# Altium integrated library Spansion Memory Flash.IntLib: 812 symbols (part 8 of 21)
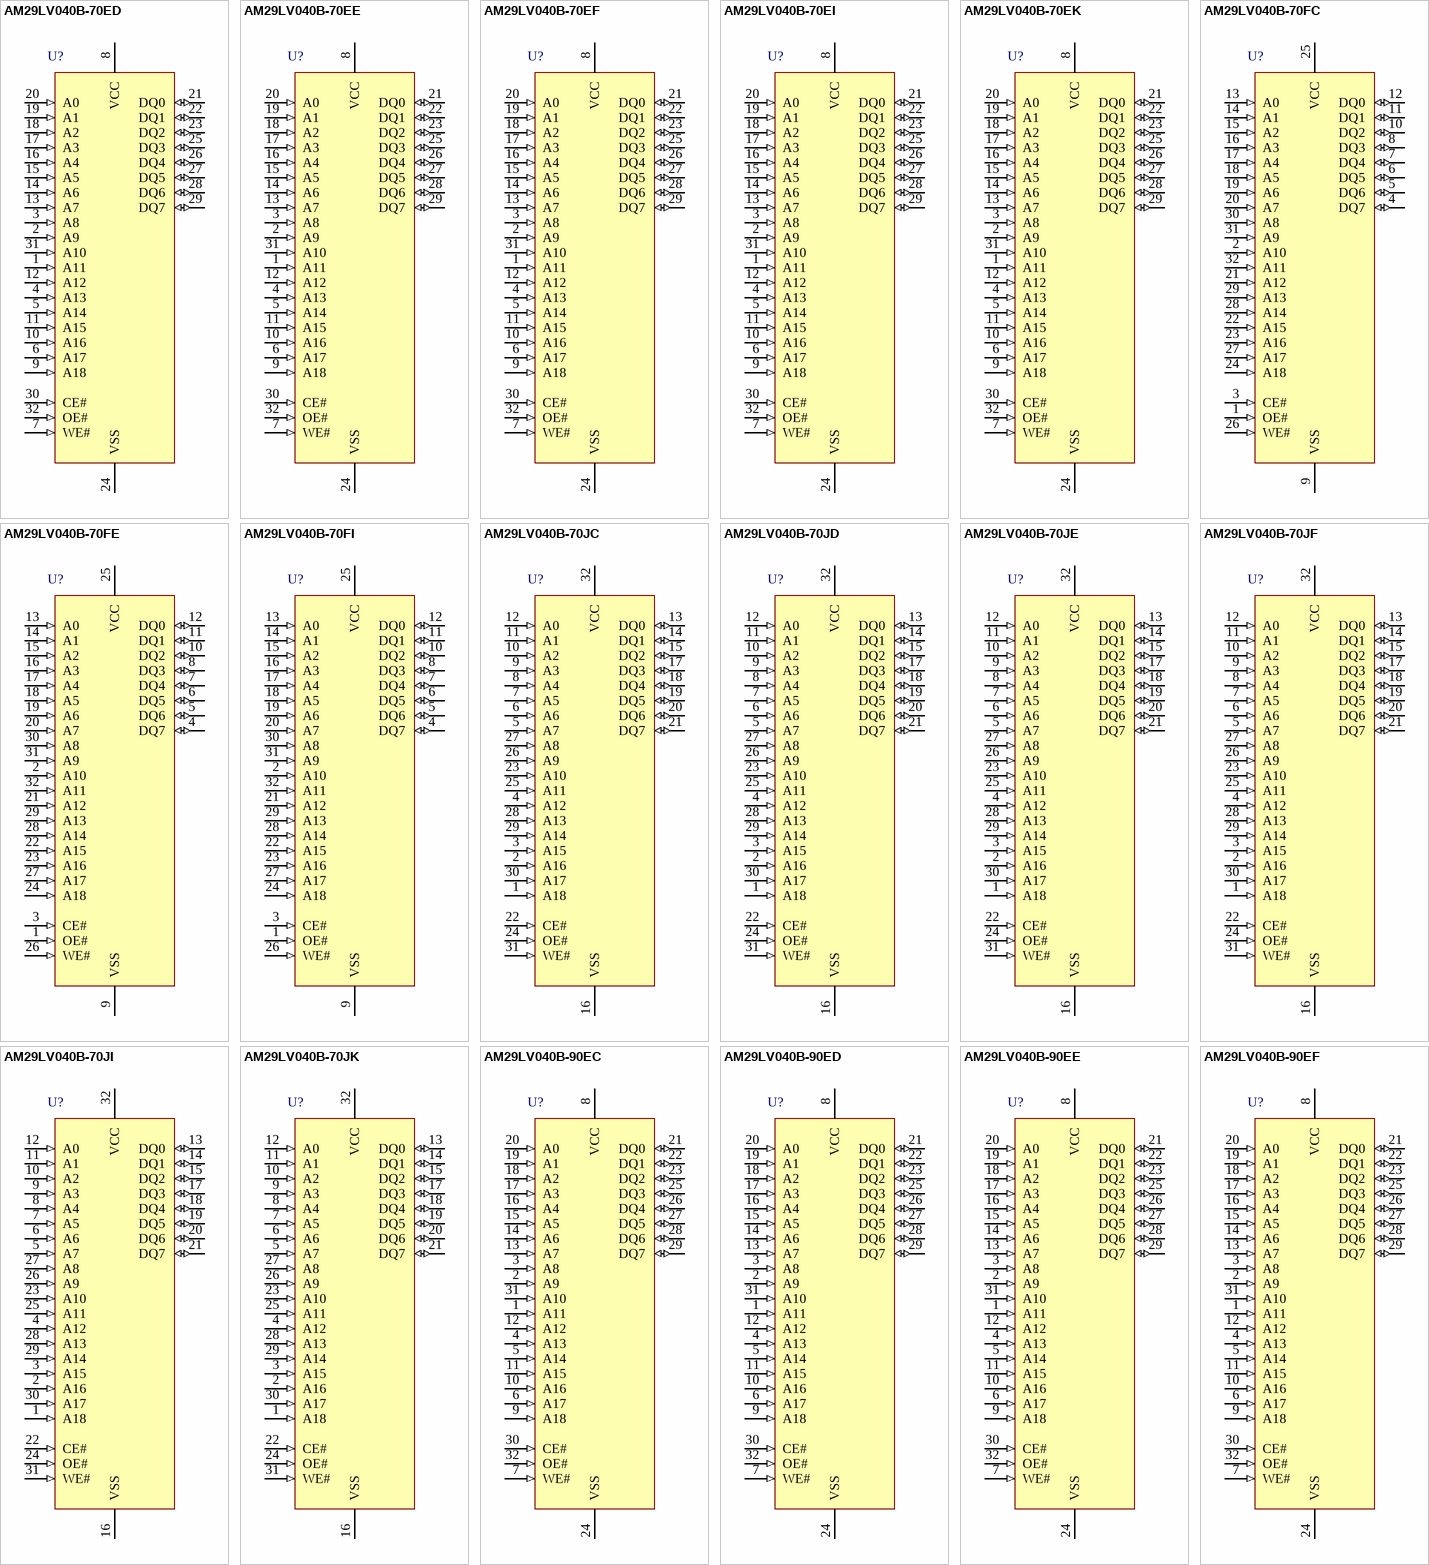
[diagram p73: symbols AM29LV040B-70ED to AM29LV040B-90EF]

## AM29LV040B-70JE
designator U?
4 Mb (512 K x 8) CMOS 3.0 Volt Uniform Sector Flash Memory, 32-Pin Rectangular PLCC, Extended Grade; Published: 6-Oct-2005; DatasheetVersion: Jul-2005; PackageVersion: revAH, 10/99; PackageReference: PL032; Publisher: Altium Limited; PackageDescription: Leaded Chip Carrier, Plastic; 32 Leads; Body 11.4 x 14 mm; Code_JEDEC: MS-016-AE; Code_IPC: PLCC/R-32; ComponentLink1Description: Manufacturer Link; ComponentLink1URL: http://www.spansion.com/; ComponentLink2Description: Datasheet; ComponentLink2URL: http://www.spansion.com/datasheets/21354e2.pdf
footprint PL032 (Leaded Chip Carrier, Plastic; 32 Leads; Body 11.4 x 14 mm)
pins: 1 A18 (in), 2 A16 (in), 3 A15 (in), 4 A12 (in), 5 A7 (in), 6 A6 (in), 7 A5 (in), 8 A4 (in), 9 A3 (in), 10 A2 (in), 11 A1 (in), 12 A0 (in), 13 DQ0 (io), 14 DQ1 (io), 15 DQ2 (io), 16 VSS (power), 17 DQ3 (io), 18 DQ4 (io), 19 DQ5 (io), 20 DQ6 (io), 21 DQ7 (io), 22 CE# (in), 23 A10 (in), 24 OE# (in), 25 A11 (in), 26 A9 (in), 27 A8 (in), 28 A13 (in), 29 A14 (in), 30 A17 (in), 31 WE# (in), 32 VCC (power)

## AM29LV040B-70JF
designator U?
4 Mb (512 K x 8) CMOS 3.0 Volt Uniform Sector Flash Memory, 32-Pin Rectangular PLCC, Industrial Grade, Pb-free; Published: 6-Oct-2005; DatasheetVersion: Jul-2005; PackageVersion: revAH, 10/99; PackageReference: PL032; Publisher: Altium Limited; PackageDescription: Leaded Chip Carrier, Plastic; 32 Leads; Body 11.4 x 14 mm; Code_JEDEC: MS-016-AE; Code_IPC: PLCC/R-32; ComponentLink1Description: Manufacturer Link; ComponentLink1URL: http://www.spansion.com/; ComponentLink2Description: Datasheet; ComponentLink2URL: http://www.spansion.com/datasheets/21354e2.pdf
footprint PL032 (Leaded Chip Carrier, Plastic; 32 Leads; Body 11.4 x 14 mm)
pins: 1 A18 (in), 2 A16 (in), 3 A15 (in), 4 A12 (in), 5 A7 (in), 6 A6 (in), 7 A5 (in), 8 A4 (in), 9 A3 (in), 10 A2 (in), 11 A1 (in), 12 A0 (in), 13 DQ0 (io), 14 DQ1 (io), 15 DQ2 (io), 16 VSS (power), 17 DQ3 (io), 18 DQ4 (io), 19 DQ5 (io), 20 DQ6 (io), 21 DQ7 (io), 22 CE# (in), 23 A10 (in), 24 OE# (in), 25 A11 (in), 26 A9 (in), 27 A8 (in), 28 A13 (in), 29 A14 (in), 30 A17 (in), 31 WE# (in), 32 VCC (power)

## AM29LV040B-70JI
designator U?
4 Mb (512 K x 8) CMOS 3.0 Volt Uniform Sector Flash Memory, 32-Pin Rectangular PLCC, Industrial Grade; Published: 6-Oct-2005; DatasheetVersion: Jul-2005; PackageVersion: revAH, 10/99; PackageReference: PL032; Publisher: Altium Limited; PackageDescription: Leaded Chip Carrier, Plastic; 32 Leads; Body 11.4 x 14 mm; Code_JEDEC: MS-016-AE; Code_IPC: PLCC/R-32; ComponentLink1Description: Manufacturer Link; ComponentLink1URL: http://www.spansion.com/; ComponentLink2Description: Datasheet; ComponentLink2URL: http://www.spansion.com/datasheets/21354e2.pdf
footprint PL032 (Leaded Chip Carrier, Plastic; 32 Leads; Body 11.4 x 14 mm)
pins: 1 A18 (in), 2 A16 (in), 3 A15 (in), 4 A12 (in), 5 A7 (in), 6 A6 (in), 7 A5 (in), 8 A4 (in), 9 A3 (in), 10 A2 (in), 11 A1 (in), 12 A0 (in), 13 DQ0 (io), 14 DQ1 (io), 15 DQ2 (io), 16 VSS (power), 17 DQ3 (io), 18 DQ4 (io), 19 DQ5 (io), 20 DQ6 (io), 21 DQ7 (io), 22 CE# (in), 23 A10 (in), 24 OE# (in), 25 A11 (in), 26 A9 (in), 27 A8 (in), 28 A13 (in), 29 A14 (in), 30 A17 (in), 31 WE# (in), 32 VCC (power)

## AM29LV040B-70JK
designator U?
4 Mb (512 K x 8) CMOS 3.0 Volt Uniform Sector Flash Memory, 32-Pin Rectangular PLCC, Extended Grade, Pb-free; Published: 6-Oct-2005; DatasheetVersion: Jul-2005; PackageVersion: revAH, 10/99; PackageReference: PL032; Publisher: Altium Limited; PackageDescription: Leaded Chip Carrier, Plastic; 32 Leads; Body 11.4 x 14 mm; Code_JEDEC: MS-016-AE; Code_IPC: PLCC/R-32; ComponentLink1Description: Manufacturer Link; ComponentLink1URL: http://www.spansion.com/; ComponentLink2Description: Datasheet; ComponentLink2URL: http://www.spansion.com/datasheets/21354e2.pdf
footprint PL032 (Leaded Chip Carrier, Plastic; 32 Leads; Body 11.4 x 14 mm)
pins: 1 A18 (in), 2 A16 (in), 3 A15 (in), 4 A12 (in), 5 A7 (in), 6 A6 (in), 7 A5 (in), 8 A4 (in), 9 A3 (in), 10 A2 (in), 11 A1 (in), 12 A0 (in), 13 DQ0 (io), 14 DQ1 (io), 15 DQ2 (io), 16 VSS (power), 17 DQ3 (io), 18 DQ4 (io), 19 DQ5 (io), 20 DQ6 (io), 21 DQ7 (io), 22 CE# (in), 23 A10 (in), 24 OE# (in), 25 A11 (in), 26 A9 (in), 27 A8 (in), 28 A13 (in), 29 A14 (in), 30 A17 (in), 31 WE# (in), 32 VCC (power)

## AM29LV040B-90EC
designator U?
4 Mb (512 K x 8) CMOS 3.0 Volt Uniform Sector Flash Memory, 32-Pin TSOP Standard Pinout, Commercial Grade; Published: 6-Oct-2005; DatasheetVersion: Jul-2005; PackageVersion: revAA, 10/99; PackageReference: TS032; Publisher: Altium Limited; PackageDescription: Thin Small Outline; 32 Leads; Body Width 18.4 mm; Pitch 0.5 mm; Code_JEDEC: MO-142-BD; ComponentLink1Description: Manufacturer Link; ComponentLink1URL: http://www.spansion.com/; ComponentLink2Description: Datasheet; ComponentLink2URL: http://www.spansion.com/datasheets/21354e2.pdf
footprint TS032 (Thin Small Outline; 32 Leads; Body Width 18.4 mm; Pitch 0.5 mm)
pins: 1 A11 (in), 2 A9 (in), 3 A8 (in), 4 A13 (in), 5 A14 (in), 6 A17 (in), 7 WE# (in), 8 VCC (power), 9 A18 (in), 10 A16 (in), 11 A15 (in), 12 A12 (in), 13 A7 (in), 14 A6 (in), 15 A5 (in), 16 A4 (in), 17 A3 (in), 18 A2 (in), 19 A1 (in), 20 A0 (in), 21 DQ0 (io), 22 DQ1 (io), 23 DQ2 (io), 24 VSS (power), 25 DQ3 (io), 26 DQ4 (io), 27 DQ5 (io), 28 DQ6 (io), 29 DQ7 (io), 30 CE# (in), 31 A10 (in), 32 OE# (in)

## AM29LV040B-90ED
designator U?
4 Mb (512 K x 8) CMOS 3.0 Volt Uniform Sector Flash Memory, 32-Pin TSOP Standard Pinout, Commercial Grade, Pb-free; Published: 6-Oct-2005; DatasheetVersion: Jul-2005; PackageVersion: revAA, 10/99; PackageReference: TS032; Publisher: Altium Limited; PackageDescription: Thin Small Outline; 32 Leads; Body Width 18.4 mm; Pitch 0.5 mm; Code_JEDEC: MO-142-BD; ComponentLink1Description: Manufacturer Link; ComponentLink1URL: http://www.spansion.com/; ComponentLink2Description: Datasheet; ComponentLink2URL: http://www.spansion.com/datasheets/21354e2.pdf
footprint TS032 (Thin Small Outline; 32 Leads; Body Width 18.4 mm; Pitch 0.5 mm)
pins: 1 A11 (in), 2 A9 (in), 3 A8 (in), 4 A13 (in), 5 A14 (in), 6 A17 (in), 7 WE# (in), 8 VCC (power), 9 A18 (in), 10 A16 (in), 11 A15 (in), 12 A12 (in), 13 A7 (in), 14 A6 (in), 15 A5 (in), 16 A4 (in), 17 A3 (in), 18 A2 (in), 19 A1 (in), 20 A0 (in), 21 DQ0 (io), 22 DQ1 (io), 23 DQ2 (io), 24 VSS (power), 25 DQ3 (io), 26 DQ4 (io), 27 DQ5 (io), 28 DQ6 (io), 29 DQ7 (io), 30 CE# (in), 31 A10 (in), 32 OE# (in)

## AM29LV040B-90EE
designator U?
4 Mb (512 K x 8) CMOS 3.0 Volt Uniform Sector Flash Memory, 32-Pin TSOP Standard Pinout, Extended Grade; Published: 6-Oct-2005; DatasheetVersion: Jul-2005; PackageVersion: revAA, 10/99; PackageReference: TS032; Publisher: Altium Limited; PackageDescription: Thin Small Outline; 32 Leads; Body Width 18.4 mm; Pitch 0.5 mm; Code_JEDEC: MO-142-BD; ComponentLink1Description: Manufacturer Link; ComponentLink1URL: http://www.spansion.com/; ComponentLink2Description: Datasheet; ComponentLink2URL: http://www.spansion.com/datasheets/21354e2.pdf
footprint TS032 (Thin Small Outline; 32 Leads; Body Width 18.4 mm; Pitch 0.5 mm)
pins: 1 A11 (in), 2 A9 (in), 3 A8 (in), 4 A13 (in), 5 A14 (in), 6 A17 (in), 7 WE# (in), 8 VCC (power), 9 A18 (in), 10 A16 (in), 11 A15 (in), 12 A12 (in), 13 A7 (in), 14 A6 (in), 15 A5 (in), 16 A4 (in), 17 A3 (in), 18 A2 (in), 19 A1 (in), 20 A0 (in), 21 DQ0 (io), 22 DQ1 (io), 23 DQ2 (io), 24 VSS (power), 25 DQ3 (io), 26 DQ4 (io), 27 DQ5 (io), 28 DQ6 (io), 29 DQ7 (io), 30 CE# (in), 31 A10 (in), 32 OE# (in)

## AM29LV040B-90EF
designator U?
4 Mb (512 K x 8) CMOS 3.0 Volt Uniform Sector Flash Memory, 32-Pin TSOP Standard Pinout, Industrial Grade, Pb-free; Published: 6-Oct-2005; DatasheetVersion: Jul-2005; PackageVersion: revAA, 10/99; PackageReference: TS032; Publisher: Altium Limited; PackageDescription: Thin Small Outline; 32 Leads; Body Width 18.4 mm; Pitch 0.5 mm; Code_JEDEC: MO-142-BD; ComponentLink1Description: Manufacturer Link; ComponentLink1URL: http://www.spansion.com/; ComponentLink2Description: Datasheet; ComponentLink2URL: http://www.spansion.com/datasheets/21354e2.pdf
footprint TS032 (Thin Small Outline; 32 Leads; Body Width 18.4 mm; Pitch 0.5 mm)
pins: 1 A11 (in), 2 A9 (in), 3 A8 (in), 4 A13 (in), 5 A14 (in), 6 A17 (in), 7 WE# (in), 8 VCC (power), 9 A18 (in), 10 A16 (in), 11 A15 (in), 12 A12 (in), 13 A7 (in), 14 A6 (in), 15 A5 (in), 16 A4 (in), 17 A3 (in), 18 A2 (in), 19 A1 (in), 20 A0 (in), 21 DQ0 (io), 22 DQ1 (io), 23 DQ2 (io), 24 VSS (power), 25 DQ3 (io), 26 DQ4 (io), 27 DQ5 (io), 28 DQ6 (io), 29 DQ7 (io), 30 CE# (in), 31 A10 (in), 32 OE# (in)

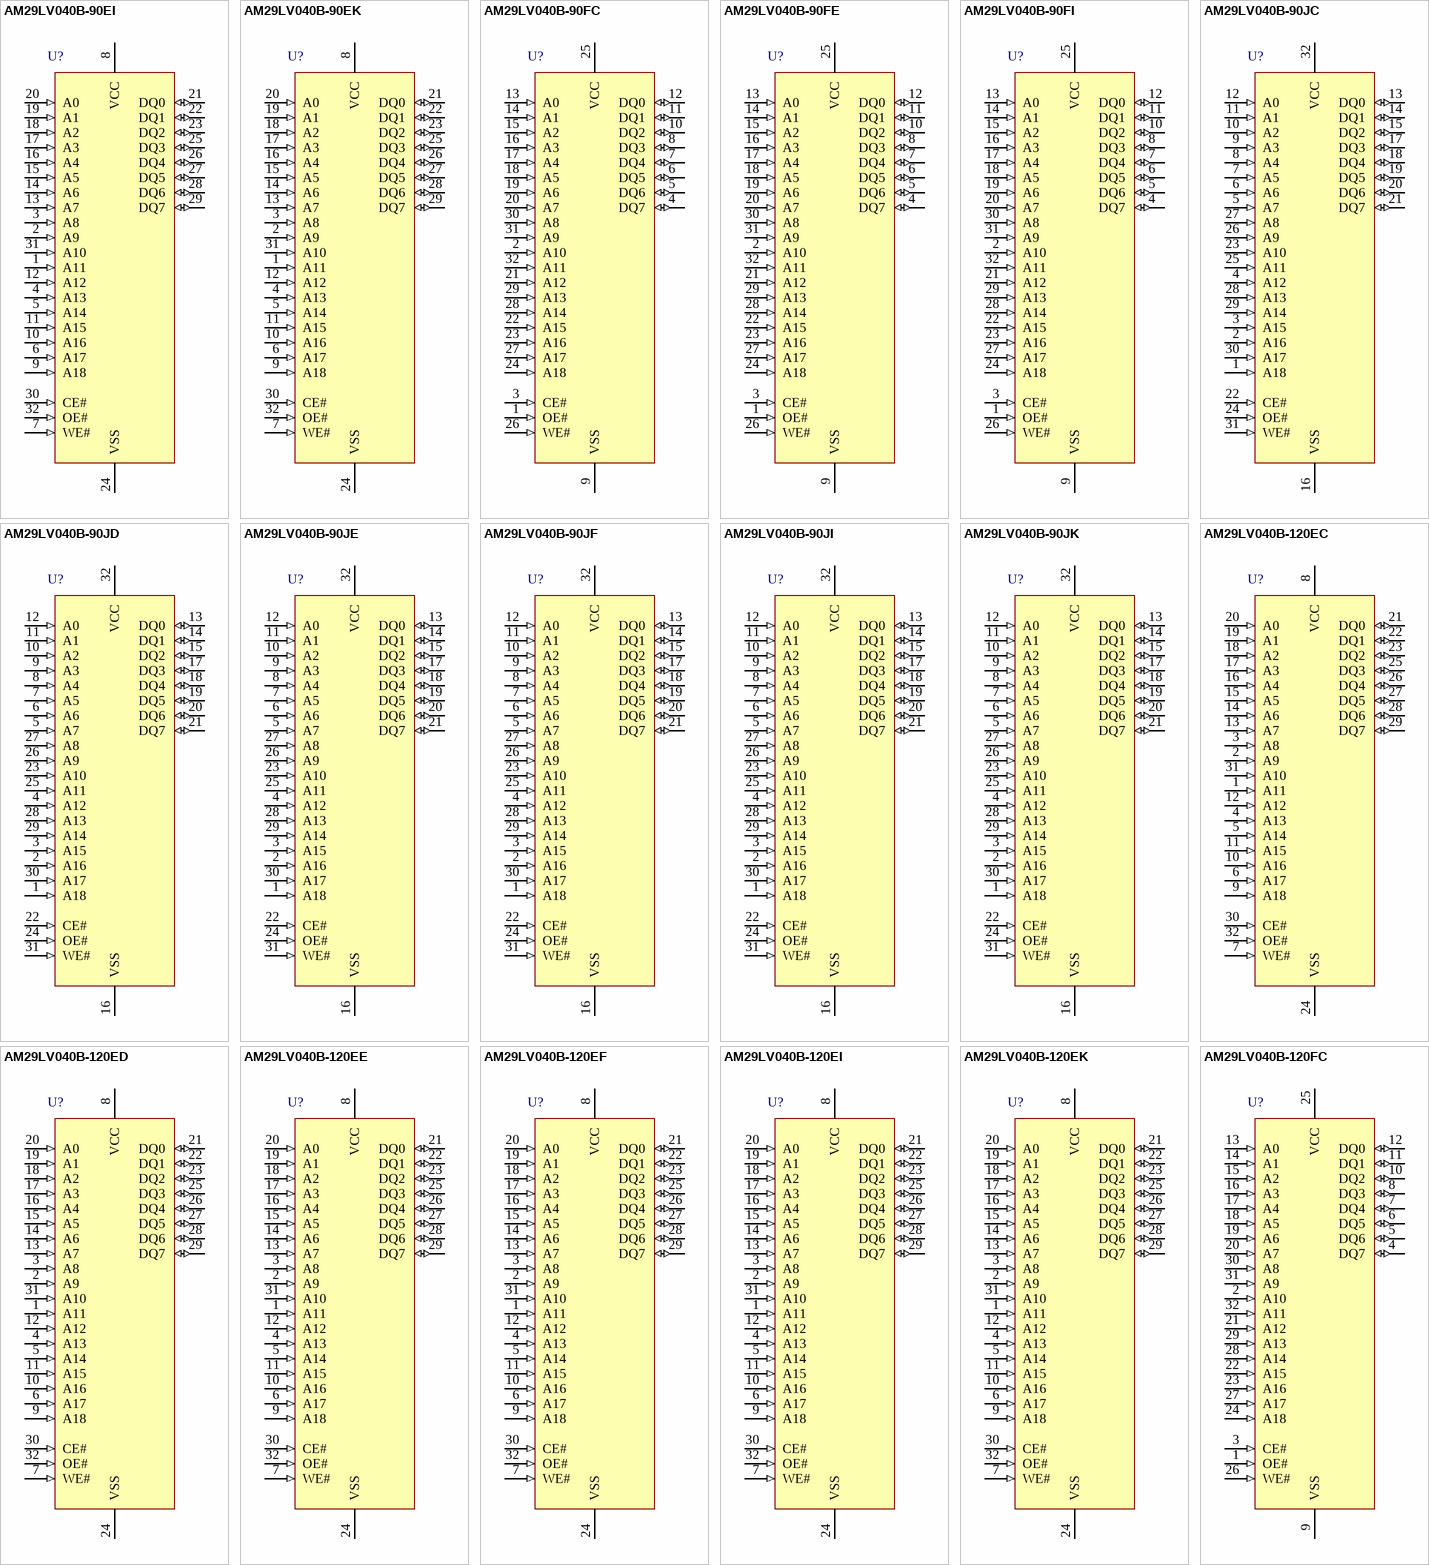
[diagram p22: symbols AM29LV040B-90EI to AM29LV040B-120FC]

## AM29LV040B-90EI
designator U?
4 Mb (512 K x 8) CMOS 3.0 Volt Uniform Sector Flash Memory, 32-Pin TSOP Standard Pinout, Industrial Grade; Published: 6-Oct-2005; DatasheetVersion: Jul-2005; PackageVersion: revAA, 10/99; PackageReference: TS032; Publisher: Altium Limited; PackageDescription: Thin Small Outline; 32 Leads; Body Width 18.4 mm; Pitch 0.5 mm; Code_JEDEC: MO-142-BD; ComponentLink1Description: Manufacturer Link; ComponentLink1URL: http://www.spansion.com/; ComponentLink2Description: Datasheet; ComponentLink2URL: http://www.spansion.com/datasheets/21354e2.pdf
footprint TS032 (Thin Small Outline; 32 Leads; Body Width 18.4 mm; Pitch 0.5 mm)
pins: 1 A11 (in), 2 A9 (in), 3 A8 (in), 4 A13 (in), 5 A14 (in), 6 A17 (in), 7 WE# (in), 8 VCC (power), 9 A18 (in), 10 A16 (in), 11 A15 (in), 12 A12 (in), 13 A7 (in), 14 A6 (in), 15 A5 (in), 16 A4 (in), 17 A3 (in), 18 A2 (in), 19 A1 (in), 20 A0 (in), 21 DQ0 (io), 22 DQ1 (io), 23 DQ2 (io), 24 VSS (power), 25 DQ3 (io), 26 DQ4 (io), 27 DQ5 (io), 28 DQ6 (io), 29 DQ7 (io), 30 CE# (in), 31 A10 (in), 32 OE# (in)

## AM29LV040B-90EK
designator U?
4 Mb (512 K x 8) CMOS 3.0 Volt Uniform Sector Flash Memory, 32-Pin TSOP Standard Pinout, Extended Grade, Pb-free; Published: 6-Oct-2005; DatasheetVersion: Jul-2005; PackageVersion: revAA, 10/99; PackageReference: TS032; Publisher: Altium Limited; PackageDescription: Thin Small Outline; 32 Leads; Body Width 18.4 mm; Pitch 0.5 mm; Code_JEDEC: MO-142-BD; ComponentLink1Description: Manufacturer Link; ComponentLink1URL: http://www.spansion.com/; ComponentLink2Description: Datasheet; ComponentLink2URL: http://www.spansion.com/datasheets/21354e2.pdf
footprint TS032 (Thin Small Outline; 32 Leads; Body Width 18.4 mm; Pitch 0.5 mm)
pins: 1 A11 (in), 2 A9 (in), 3 A8 (in), 4 A13 (in), 5 A14 (in), 6 A17 (in), 7 WE# (in), 8 VCC (power), 9 A18 (in), 10 A16 (in), 11 A15 (in), 12 A12 (in), 13 A7 (in), 14 A6 (in), 15 A5 (in), 16 A4 (in), 17 A3 (in), 18 A2 (in), 19 A1 (in), 20 A0 (in), 21 DQ0 (io), 22 DQ1 (io), 23 DQ2 (io), 24 VSS (power), 25 DQ3 (io), 26 DQ4 (io), 27 DQ5 (io), 28 DQ6 (io), 29 DQ7 (io), 30 CE# (in), 31 A10 (in), 32 OE# (in)

## AM29LV040B-90FC
designator U?
4 Mb (512 K x 8) CMOS 3.0 Volt Uniform Sector Flash Memory, 32-Pin TSOP Reverse Pinout, Commercial Grade; Published: 6-Oct-2005; DatasheetVersion: Jul-2005; PackageVersion: revAA, 10/99; PackageReference: TSR032; Publisher: Altium Limited; PackageDescription: Thin Small Outline, Reverse Pinout; 32 Leads; Body Width 18.4 mm; Pitch 0.5 mm; Code_JEDEC: MO-142-BD; ComponentLink1Description: Manufacturer Link; ComponentLink1URL: http://www.spansion.com/; ComponentLink2Description: Datasheet; ComponentLink2URL: http://www.spansion.com/datasheets/21354e2.pdf
footprint TSR032 (Thin Small Outline, Reverse Pinout; 32 Leads; Body Width 18.4 mm; Pitch 0.5 mm)
pins: 1 OE# (in), 2 A10 (in), 3 CE# (in), 4 DQ7 (io), 5 DQ6 (io), 6 DQ5 (io), 7 DQ4 (io), 8 DQ3 (io), 9 VSS (power), 10 DQ2 (io), 11 DQ1 (io), 12 DQ0 (io), 13 A0 (in), 14 A1 (in), 15 A2 (in), 16 A3 (in), 17 A4 (in), 18 A5 (in), 19 A6 (in), 20 A7 (in), 21 A12 (in), 22 A15 (in), 23 A16 (in), 24 A18 (in), 25 VCC (power), 26 WE# (in), 27 A17 (in), 28 A14 (in), 29 A13 (in), 30 A8 (in), 31 A9 (in), 32 A11 (in)

## AM29LV040B-90FE
designator U?
4 Mb (512 K x 8) CMOS 3.0 Volt Uniform Sector Flash Memory, 32-Pin TSOP Reverse Pinout, Extended Grade; Published: 6-Oct-2005; DatasheetVersion: Jul-2005; PackageVersion: revAA, 10/99; PackageReference: TSR032; Publisher: Altium Limited; PackageDescription: Thin Small Outline, Reverse Pinout; 32 Leads; Body Width 18.4 mm; Pitch 0.5 mm; Code_JEDEC: MO-142-BD; ComponentLink1Description: Manufacturer Link; ComponentLink1URL: http://www.spansion.com/; ComponentLink2Description: Datasheet; ComponentLink2URL: http://www.spansion.com/datasheets/21354e2.pdf
footprint TSR032 (Thin Small Outline, Reverse Pinout; 32 Leads; Body Width 18.4 mm; Pitch 0.5 mm)
pins: 1 OE# (in), 2 A10 (in), 3 CE# (in), 4 DQ7 (io), 5 DQ6 (io), 6 DQ5 (io), 7 DQ4 (io), 8 DQ3 (io), 9 VSS (power), 10 DQ2 (io), 11 DQ1 (io), 12 DQ0 (io), 13 A0 (in), 14 A1 (in), 15 A2 (in), 16 A3 (in), 17 A4 (in), 18 A5 (in), 19 A6 (in), 20 A7 (in), 21 A12 (in), 22 A15 (in), 23 A16 (in), 24 A18 (in), 25 VCC (power), 26 WE# (in), 27 A17 (in), 28 A14 (in), 29 A13 (in), 30 A8 (in), 31 A9 (in), 32 A11 (in)

## AM29LV040B-90FI
designator U?
4 Mb (512 K x 8) CMOS 3.0 Volt Uniform Sector Flash Memory, 32-Pin TSOP Reverse Pinout, Industrial Grade; Published: 6-Oct-2005; DatasheetVersion: Jul-2005; PackageVersion: revAA, 10/99; PackageReference: TSR032; Publisher: Altium Limited; PackageDescription: Thin Small Outline, Reverse Pinout; 32 Leads; Body Width 18.4 mm; Pitch 0.5 mm; Code_JEDEC: MO-142-BD; ComponentLink1Description: Manufacturer Link; ComponentLink1URL: http://www.spansion.com/; ComponentLink2Description: Datasheet; ComponentLink2URL: http://www.spansion.com/datasheets/21354e2.pdf
footprint TSR032 (Thin Small Outline, Reverse Pinout; 32 Leads; Body Width 18.4 mm; Pitch 0.5 mm)
pins: 1 OE# (in), 2 A10 (in), 3 CE# (in), 4 DQ7 (io), 5 DQ6 (io), 6 DQ5 (io), 7 DQ4 (io), 8 DQ3 (io), 9 VSS (power), 10 DQ2 (io), 11 DQ1 (io), 12 DQ0 (io), 13 A0 (in), 14 A1 (in), 15 A2 (in), 16 A3 (in), 17 A4 (in), 18 A5 (in), 19 A6 (in), 20 A7 (in), 21 A12 (in), 22 A15 (in), 23 A16 (in), 24 A18 (in), 25 VCC (power), 26 WE# (in), 27 A17 (in), 28 A14 (in), 29 A13 (in), 30 A8 (in), 31 A9 (in), 32 A11 (in)

## AM29LV040B-90JC
designator U?
4 Mb (512 K x 8) CMOS 3.0 Volt Uniform Sector Flash Memory, 32-Pin Rectangular PLCC, Commercial Grade; Published: 6-Oct-2005; DatasheetVersion: Jul-2005; PackageVersion: revAH, 10/99; PackageReference: PL032; Publisher: Altium Limited; PackageDescription: Leaded Chip Carrier, Plastic; 32 Leads; Body 11.4 x 14 mm; Code_JEDEC: MS-016-AE; Code_IPC: PLCC/R-32; ComponentLink1Description: Manufacturer Link; ComponentLink1URL: http://www.spansion.com/; ComponentLink2Description: Datasheet; ComponentLink2URL: http://www.spansion.com/datasheets/21354e2.pdf
footprint PL032 (Leaded Chip Carrier, Plastic; 32 Leads; Body 11.4 x 14 mm)
pins: 1 A18 (in), 2 A16 (in), 3 A15 (in), 4 A12 (in), 5 A7 (in), 6 A6 (in), 7 A5 (in), 8 A4 (in), 9 A3 (in), 10 A2 (in), 11 A1 (in), 12 A0 (in), 13 DQ0 (io), 14 DQ1 (io), 15 DQ2 (io), 16 VSS (power), 17 DQ3 (io), 18 DQ4 (io), 19 DQ5 (io), 20 DQ6 (io), 21 DQ7 (io), 22 CE# (in), 23 A10 (in), 24 OE# (in), 25 A11 (in), 26 A9 (in), 27 A8 (in), 28 A13 (in), 29 A14 (in), 30 A17 (in), 31 WE# (in), 32 VCC (power)

## AM29LV040B-90JD
designator U?
4 Mb (512 K x 8) CMOS 3.0 Volt Uniform Sector Flash Memory, 32-Pin Rectangular PLCC, Commercial Grade, Pb-free; Published: 6-Oct-2005; DatasheetVersion: Jul-2005; PackageVersion: revAH, 10/99; PackageReference: PL032; Publisher: Altium Limited; PackageDescription: Leaded Chip Carrier, Plastic; 32 Leads; Body 11.4 x 14 mm; Code_JEDEC: MS-016-AE; Code_IPC: PLCC/R-32; ComponentLink1Description: Manufacturer Link; ComponentLink1URL: http://www.spansion.com/; ComponentLink2Description: Datasheet; ComponentLink2URL: http://www.spansion.com/datasheets/21354e2.pdf
footprint PL032 (Leaded Chip Carrier, Plastic; 32 Leads; Body 11.4 x 14 mm)
pins: 1 A18 (in), 2 A16 (in), 3 A15 (in), 4 A12 (in), 5 A7 (in), 6 A6 (in), 7 A5 (in), 8 A4 (in), 9 A3 (in), 10 A2 (in), 11 A1 (in), 12 A0 (in), 13 DQ0 (io), 14 DQ1 (io), 15 DQ2 (io), 16 VSS (power), 17 DQ3 (io), 18 DQ4 (io), 19 DQ5 (io), 20 DQ6 (io), 21 DQ7 (io), 22 CE# (in), 23 A10 (in), 24 OE# (in), 25 A11 (in), 26 A9 (in), 27 A8 (in), 28 A13 (in), 29 A14 (in), 30 A17 (in), 31 WE# (in), 32 VCC (power)

## AM29LV040B-90JE
designator U?
4 Mb (512 K x 8) CMOS 3.0 Volt Uniform Sector Flash Memory, 32-Pin Rectangular PLCC, Extended Grade; Published: 6-Oct-2005; DatasheetVersion: Jul-2005; PackageVersion: revAH, 10/99; PackageReference: PL032; Publisher: Altium Limited; PackageDescription: Leaded Chip Carrier, Plastic; 32 Leads; Body 11.4 x 14 mm; Code_JEDEC: MS-016-AE; Code_IPC: PLCC/R-32; ComponentLink1Description: Manufacturer Link; ComponentLink1URL: http://www.spansion.com/; ComponentLink2Description: Datasheet; ComponentLink2URL: http://www.spansion.com/datasheets/21354e2.pdf
footprint PL032 (Leaded Chip Carrier, Plastic; 32 Leads; Body 11.4 x 14 mm)
pins: 1 A18 (in), 2 A16 (in), 3 A15 (in), 4 A12 (in), 5 A7 (in), 6 A6 (in), 7 A5 (in), 8 A4 (in), 9 A3 (in), 10 A2 (in), 11 A1 (in), 12 A0 (in), 13 DQ0 (io), 14 DQ1 (io), 15 DQ2 (io), 16 VSS (power), 17 DQ3 (io), 18 DQ4 (io), 19 DQ5 (io), 20 DQ6 (io), 21 DQ7 (io), 22 CE# (in), 23 A10 (in), 24 OE# (in), 25 A11 (in), 26 A9 (in), 27 A8 (in), 28 A13 (in), 29 A14 (in), 30 A17 (in), 31 WE# (in), 32 VCC (power)

## AM29LV040B-90JF
designator U?
4 Mb (512 K x 8) CMOS 3.0 Volt Uniform Sector Flash Memory, 32-Pin Rectangular PLCC, Industrial Grade, Pb-free; Published: 6-Oct-2005; DatasheetVersion: Jul-2005; PackageVersion: revAH, 10/99; PackageReference: PL032; Publisher: Altium Limited; PackageDescription: Leaded Chip Carrier, Plastic; 32 Leads; Body 11.4 x 14 mm; Code_JEDEC: MS-016-AE; Code_IPC: PLCC/R-32; ComponentLink1Description: Manufacturer Link; ComponentLink1URL: http://www.spansion.com/; ComponentLink2Description: Datasheet; ComponentLink2URL: http://www.spansion.com/datasheets/21354e2.pdf
footprint PL032 (Leaded Chip Carrier, Plastic; 32 Leads; Body 11.4 x 14 mm)
pins: 1 A18 (in), 2 A16 (in), 3 A15 (in), 4 A12 (in), 5 A7 (in), 6 A6 (in), 7 A5 (in), 8 A4 (in), 9 A3 (in), 10 A2 (in), 11 A1 (in), 12 A0 (in), 13 DQ0 (io), 14 DQ1 (io), 15 DQ2 (io), 16 VSS (power), 17 DQ3 (io), 18 DQ4 (io), 19 DQ5 (io), 20 DQ6 (io), 21 DQ7 (io), 22 CE# (in), 23 A10 (in), 24 OE# (in), 25 A11 (in), 26 A9 (in), 27 A8 (in), 28 A13 (in), 29 A14 (in), 30 A17 (in), 31 WE# (in), 32 VCC (power)

## AM29LV040B-90JI
designator U?
4 Mb (512 K x 8) CMOS 3.0 Volt Uniform Sector Flash Memory, 32-Pin Rectangular PLCC, Industrial Grade; Published: 6-Oct-2005; DatasheetVersion: Jul-2005; PackageVersion: revAH, 10/99; PackageReference: PL032; Publisher: Altium Limited; PackageDescription: Leaded Chip Carrier, Plastic; 32 Leads; Body 11.4 x 14 mm; Code_JEDEC: MS-016-AE; Code_IPC: PLCC/R-32; ComponentLink1Description: Manufacturer Link; ComponentLink1URL: http://www.spansion.com/; ComponentLink2Description: Datasheet; ComponentLink2URL: http://www.spansion.com/datasheets/21354e2.pdf
footprint PL032 (Leaded Chip Carrier, Plastic; 32 Leads; Body 11.4 x 14 mm)
pins: 1 A18 (in), 2 A16 (in), 3 A15 (in), 4 A12 (in), 5 A7 (in), 6 A6 (in), 7 A5 (in), 8 A4 (in), 9 A3 (in), 10 A2 (in), 11 A1 (in), 12 A0 (in), 13 DQ0 (io), 14 DQ1 (io), 15 DQ2 (io), 16 VSS (power), 17 DQ3 (io), 18 DQ4 (io), 19 DQ5 (io), 20 DQ6 (io), 21 DQ7 (io), 22 CE# (in), 23 A10 (in), 24 OE# (in), 25 A11 (in), 26 A9 (in), 27 A8 (in), 28 A13 (in), 29 A14 (in), 30 A17 (in), 31 WE# (in), 32 VCC (power)

## AM29LV040B-90JK
designator U?
4 Mb (512 K x 8) CMOS 3.0 Volt Uniform Sector Flash Memory, 32-Pin Rectangular PLCC, Extended Grade, Pb-free; Published: 6-Oct-2005; DatasheetVersion: Jul-2005; PackageVersion: revAH, 10/99; PackageReference: PL032; Publisher: Altium Limited; PackageDescription: Leaded Chip Carrier, Plastic; 32 Leads; Body 11.4 x 14 mm; Code_JEDEC: MS-016-AE; Code_IPC: PLCC/R-32; ComponentLink1Description: Manufacturer Link; ComponentLink1URL: http://www.spansion.com/; ComponentLink2Description: Datasheet; ComponentLink2URL: http://www.spansion.com/datasheets/21354e2.pdf
footprint PL032 (Leaded Chip Carrier, Plastic; 32 Leads; Body 11.4 x 14 mm)
pins: 1 A18 (in), 2 A16 (in), 3 A15 (in), 4 A12 (in), 5 A7 (in), 6 A6 (in), 7 A5 (in), 8 A4 (in), 9 A3 (in), 10 A2 (in), 11 A1 (in), 12 A0 (in), 13 DQ0 (io), 14 DQ1 (io), 15 DQ2 (io), 16 VSS (power), 17 DQ3 (io), 18 DQ4 (io), 19 DQ5 (io), 20 DQ6 (io), 21 DQ7 (io), 22 CE# (in), 23 A10 (in), 24 OE# (in), 25 A11 (in), 26 A9 (in), 27 A8 (in), 28 A13 (in), 29 A14 (in), 30 A17 (in), 31 WE# (in), 32 VCC (power)

## AM29LV040B-120EC
designator U?
4 Mb (512 K x 8) CMOS 3.0 Volt Uniform Sector Flash Memory, 32-Pin TSOP Standard Pinout, Commercial Grade; Published: 6-Oct-2005; DatasheetVersion: Jul-2005; PackageVersion: revAA, 10/99; PackageReference: TS032; Publisher: Altium Limited; PackageDescription: Thin Small Outline; 32 Leads; Body Width 18.4 mm; Pitch 0.5 mm; Code_JEDEC: MO-142-BD; ComponentLink1Description: Manufacturer Link; ComponentLink1URL: http://www.spansion.com/; ComponentLink2Description: Datasheet; ComponentLink2URL: http://www.spansion.com/datasheets/21354e2.pdf
footprint TS032 (Thin Small Outline; 32 Leads; Body Width 18.4 mm; Pitch 0.5 mm)
pins: 1 A11 (in), 2 A9 (in), 3 A8 (in), 4 A13 (in), 5 A14 (in), 6 A17 (in), 7 WE# (in), 8 VCC (power), 9 A18 (in), 10 A16 (in), 11 A15 (in), 12 A12 (in), 13 A7 (in), 14 A6 (in), 15 A5 (in), 16 A4 (in), 17 A3 (in), 18 A2 (in), 19 A1 (in), 20 A0 (in), 21 DQ0 (io), 22 DQ1 (io), 23 DQ2 (io), 24 VSS (power), 25 DQ3 (io), 26 DQ4 (io), 27 DQ5 (io), 28 DQ6 (io), 29 DQ7 (io), 30 CE# (in), 31 A10 (in), 32 OE# (in)

## AM29LV040B-120ED
designator U?
4 Mb (512 K x 8) CMOS 3.0 Volt Uniform Sector Flash Memory, 32-Pin TSOP Standard Pinout, Commercial Grade, Pb-free; Published: 6-Oct-2005; DatasheetVersion: Jul-2005; PackageVersion: revAA, 10/99; PackageReference: TS032; Publisher: Altium Limited; PackageDescription: Thin Small Outline; 32 Leads; Body Width 18.4 mm; Pitch 0.5 mm; Code_JEDEC: MO-142-BD; ComponentLink1Description: Manufacturer Link; ComponentLink1URL: http://www.spansion.com/; ComponentLink2Description: Datasheet; ComponentLink2URL: http://www.spansion.com/datasheets/21354e2.pdf
footprint TS032 (Thin Small Outline; 32 Leads; Body Width 18.4 mm; Pitch 0.5 mm)
pins: 1 A11 (in), 2 A9 (in), 3 A8 (in), 4 A13 (in), 5 A14 (in), 6 A17 (in), 7 WE# (in), 8 VCC (power), 9 A18 (in), 10 A16 (in), 11 A15 (in), 12 A12 (in), 13 A7 (in), 14 A6 (in), 15 A5 (in), 16 A4 (in), 17 A3 (in), 18 A2 (in), 19 A1 (in), 20 A0 (in), 21 DQ0 (io), 22 DQ1 (io), 23 DQ2 (io), 24 VSS (power), 25 DQ3 (io), 26 DQ4 (io), 27 DQ5 (io), 28 DQ6 (io), 29 DQ7 (io), 30 CE# (in), 31 A10 (in), 32 OE# (in)

## AM29LV040B-120EE
designator U?
4 Mb (512 K x 8) CMOS 3.0 Volt Uniform Sector Flash Memory, 32-Pin TSOP Standard Pinout, Extended Grade; Published: 6-Oct-2005; DatasheetVersion: Jul-2005; PackageVersion: revAA, 10/99; PackageReference: TS032; Publisher: Altium Limited; PackageDescription: Thin Small Outline; 32 Leads; Body Width 18.4 mm; Pitch 0.5 mm; Code_JEDEC: MO-142-BD; ComponentLink1Description: Manufacturer Link; ComponentLink1URL: http://www.spansion.com/; ComponentLink2Description: Datasheet; ComponentLink2URL: http://www.spansion.com/datasheets/21354e2.pdf
footprint TS032 (Thin Small Outline; 32 Leads; Body Width 18.4 mm; Pitch 0.5 mm)
pins: 1 A11 (in), 2 A9 (in), 3 A8 (in), 4 A13 (in), 5 A14 (in), 6 A17 (in), 7 WE# (in), 8 VCC (power), 9 A18 (in), 10 A16 (in), 11 A15 (in), 12 A12 (in), 13 A7 (in), 14 A6 (in), 15 A5 (in), 16 A4 (in), 17 A3 (in), 18 A2 (in), 19 A1 (in), 20 A0 (in), 21 DQ0 (io), 22 DQ1 (io), 23 DQ2 (io), 24 VSS (power), 25 DQ3 (io), 26 DQ4 (io), 27 DQ5 (io), 28 DQ6 (io), 29 DQ7 (io), 30 CE# (in), 31 A10 (in), 32 OE# (in)

## AM29LV040B-120EF
designator U?
4 Mb (512 K x 8) CMOS 3.0 Volt Uniform Sector Flash Memory, 32-Pin TSOP Standard Pinout, Industrial Grade, Pb-free; Published: 6-Oct-2005; DatasheetVersion: Jul-2005; PackageVersion: revAA, 10/99; PackageReference: TS032; Publisher: Altium Limited; PackageDescription: Thin Small Outline; 32 Leads; Body Width 18.4 mm; Pitch 0.5 mm; Code_JEDEC: MO-142-BD; ComponentLink1Description: Manufacturer Link; ComponentLink1URL: http://www.spansion.com/; ComponentLink2Description: Datasheet; ComponentLink2URL: http://www.spansion.com/datasheets/21354e2.pdf
footprint TS032 (Thin Small Outline; 32 Leads; Body Width 18.4 mm; Pitch 0.5 mm)
pins: 1 A11 (in), 2 A9 (in), 3 A8 (in), 4 A13 (in), 5 A14 (in), 6 A17 (in), 7 WE# (in), 8 VCC (power), 9 A18 (in), 10 A16 (in), 11 A15 (in), 12 A12 (in), 13 A7 (in), 14 A6 (in), 15 A5 (in), 16 A4 (in), 17 A3 (in), 18 A2 (in), 19 A1 (in), 20 A0 (in), 21 DQ0 (io), 22 DQ1 (io), 23 DQ2 (io), 24 VSS (power), 25 DQ3 (io), 26 DQ4 (io), 27 DQ5 (io), 28 DQ6 (io), 29 DQ7 (io), 30 CE# (in), 31 A10 (in), 32 OE# (in)

## AM29LV040B-120EI
designator U?
4 Mb (512 K x 8) CMOS 3.0 Volt Uniform Sector Flash Memory, 32-Pin TSOP Standard Pinout, Industrial Grade; Published: 6-Oct-2005; DatasheetVersion: Jul-2005; PackageVersion: revAA, 10/99; PackageReference: TS032; Publisher: Altium Limited; PackageDescription: Thin Small Outline; 32 Leads; Body Width 18.4 mm; Pitch 0.5 mm; Code_JEDEC: MO-142-BD; ComponentLink1Description: Manufacturer Link; ComponentLink1URL: http://www.spansion.com/; ComponentLink2Description: Datasheet; ComponentLink2URL: http://www.spansion.com/datasheets/21354e2.pdf
footprint TS032 (Thin Small Outline; 32 Leads; Body Width 18.4 mm; Pitch 0.5 mm)
pins: 1 A11 (in), 2 A9 (in), 3 A8 (in), 4 A13 (in), 5 A14 (in), 6 A17 (in), 7 WE# (in), 8 VCC (power), 9 A18 (in), 10 A16 (in), 11 A15 (in), 12 A12 (in), 13 A7 (in), 14 A6 (in), 15 A5 (in), 16 A4 (in), 17 A3 (in), 18 A2 (in), 19 A1 (in), 20 A0 (in), 21 DQ0 (io), 22 DQ1 (io), 23 DQ2 (io), 24 VSS (power), 25 DQ3 (io), 26 DQ4 (io), 27 DQ5 (io), 28 DQ6 (io), 29 DQ7 (io), 30 CE# (in), 31 A10 (in), 32 OE# (in)

## AM29LV040B-120EK
designator U?
4 Mb (512 K x 8) CMOS 3.0 Volt Uniform Sector Flash Memory, 32-Pin TSOP Standard Pinout, Extended Grade, Pb-free; Published: 6-Oct-2005; DatasheetVersion: Jul-2005; PackageVersion: revAA, 10/99; PackageReference: TS032; Publisher: Altium Limited; PackageDescription: Thin Small Outline; 32 Leads; Body Width 18.4 mm; Pitch 0.5 mm; Code_JEDEC: MO-142-BD; ComponentLink1Description: Manufacturer Link; ComponentLink1URL: http://www.spansion.com/; ComponentLink2Description: Datasheet; ComponentLink2URL: http://www.spansion.com/datasheets/21354e2.pdf
footprint TS032 (Thin Small Outline; 32 Leads; Body Width 18.4 mm; Pitch 0.5 mm)
pins: 1 A11 (in), 2 A9 (in), 3 A8 (in), 4 A13 (in), 5 A14 (in), 6 A17 (in), 7 WE# (in), 8 VCC (power), 9 A18 (in), 10 A16 (in), 11 A15 (in), 12 A12 (in), 13 A7 (in), 14 A6 (in), 15 A5 (in), 16 A4 (in), 17 A3 (in), 18 A2 (in), 19 A1 (in), 20 A0 (in), 21 DQ0 (io), 22 DQ1 (io), 23 DQ2 (io), 24 VSS (power), 25 DQ3 (io), 26 DQ4 (io), 27 DQ5 (io), 28 DQ6 (io), 29 DQ7 (io), 30 CE# (in), 31 A10 (in), 32 OE# (in)

## AM29LV040B-120FC
designator U?
4 Mb (512 K x 8) CMOS 3.0 Volt Uniform Sector Flash Memory, 32-Pin TSOP Reverse Pinout, Commercial Grade; Published: 6-Oct-2005; DatasheetVersion: Jul-2005; PackageVersion: revAA, 10/99; PackageReference: TSR032; Publisher: Altium Limited; PackageDescription: Thin Small Outline, Reverse Pinout; 32 Leads; Body Width 18.4 mm; Pitch 0.5 mm; Code_JEDEC: MO-142-BD; ComponentLink1Description: Manufacturer Link; ComponentLink1URL: http://www.spansion.com/; ComponentLink2Description: Datasheet; ComponentLink2URL: http://www.spansion.com/datasheets/21354e2.pdf
footprint TSR032 (Thin Small Outline, Reverse Pinout; 32 Leads; Body Width 18.4 mm; Pitch 0.5 mm)
pins: 1 OE# (in), 2 A10 (in), 3 CE# (in), 4 DQ7 (io), 5 DQ6 (io), 6 DQ5 (io), 7 DQ4 (io), 8 DQ3 (io), 9 VSS (power), 10 DQ2 (io), 11 DQ1 (io), 12 DQ0 (io), 13 A0 (in), 14 A1 (in), 15 A2 (in), 16 A3 (in), 17 A4 (in), 18 A5 (in), 19 A6 (in), 20 A7 (in), 21 A12 (in), 22 A15 (in), 23 A16 (in), 24 A18 (in), 25 VCC (power), 26 WE# (in), 27 A17 (in), 28 A14 (in), 29 A13 (in), 30 A8 (in), 31 A9 (in), 32 A11 (in)

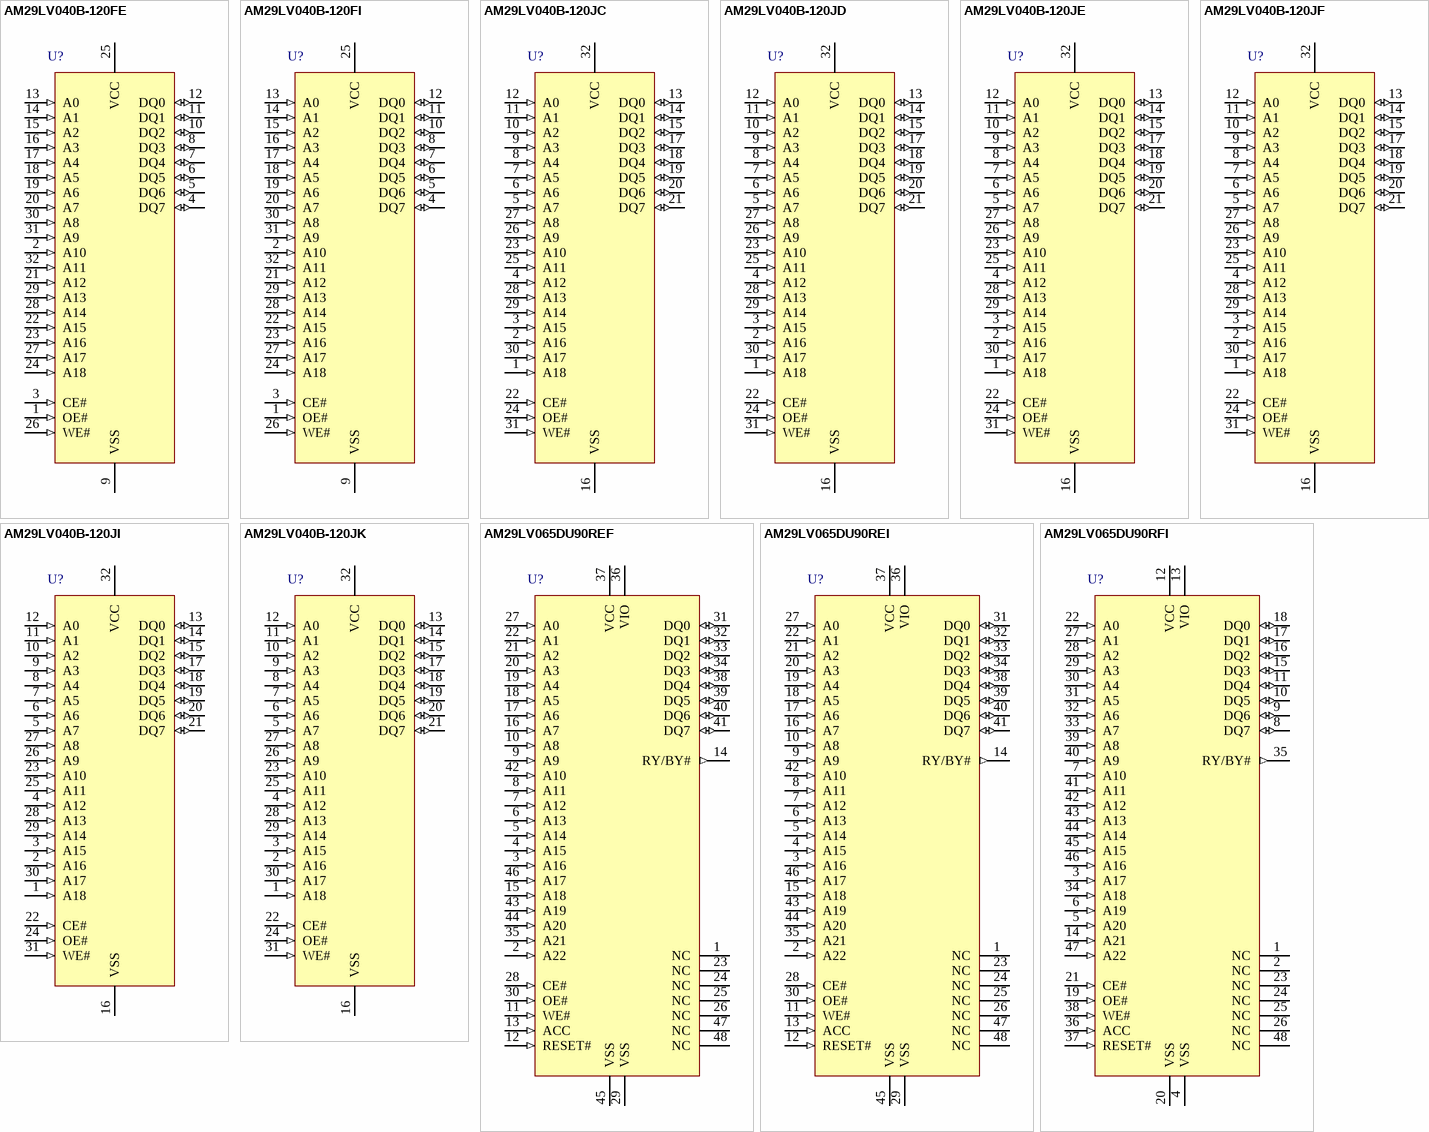
[diagram p23: symbols AM29LV040B-120FE to AM29LV065DU90RFI]

## AM29LV040B-120FE
designator U?
4 Mb (512 K x 8) CMOS 3.0 Volt Uniform Sector Flash Memory, 32-Pin TSOP Reverse Pinout, Extended Grade; Published: 6-Oct-2005; DatasheetVersion: Jul-2005; PackageVersion: revAA, 10/99; PackageReference: TSR032; Publisher: Altium Limited; PackageDescription: Thin Small Outline, Reverse Pinout; 32 Leads; Body Width 18.4 mm; Pitch 0.5 mm; Code_JEDEC: MO-142-BD; ComponentLink1Description: Manufacturer Link; ComponentLink1URL: http://www.spansion.com/; ComponentLink2Description: Datasheet; ComponentLink2URL: http://www.spansion.com/datasheets/21354e2.pdf
footprint TSR032 (Thin Small Outline, Reverse Pinout; 32 Leads; Body Width 18.4 mm; Pitch 0.5 mm)
pins: 1 OE# (in), 2 A10 (in), 3 CE# (in), 4 DQ7 (io), 5 DQ6 (io), 6 DQ5 (io), 7 DQ4 (io), 8 DQ3 (io), 9 VSS (power), 10 DQ2 (io), 11 DQ1 (io), 12 DQ0 (io), 13 A0 (in), 14 A1 (in), 15 A2 (in), 16 A3 (in), 17 A4 (in), 18 A5 (in), 19 A6 (in), 20 A7 (in), 21 A12 (in), 22 A15 (in), 23 A16 (in), 24 A18 (in), 25 VCC (power), 26 WE# (in), 27 A17 (in), 28 A14 (in), 29 A13 (in), 30 A8 (in), 31 A9 (in), 32 A11 (in)

## AM29LV040B-120FI
designator U?
4 Mb (512 K x 8) CMOS 3.0 Volt Uniform Sector Flash Memory, 32-Pin TSOP Reverse Pinout, Industrial Grade; Published: 6-Oct-2005; DatasheetVersion: Jul-2005; PackageVersion: revAA, 10/99; PackageReference: TSR032; Publisher: Altium Limited; PackageDescription: Thin Small Outline, Reverse Pinout; 32 Leads; Body Width 18.4 mm; Pitch 0.5 mm; Code_JEDEC: MO-142-BD; ComponentLink1Description: Manufacturer Link; ComponentLink1URL: http://www.spansion.com/; ComponentLink2Description: Datasheet; ComponentLink2URL: http://www.spansion.com/datasheets/21354e2.pdf
footprint TSR032 (Thin Small Outline, Reverse Pinout; 32 Leads; Body Width 18.4 mm; Pitch 0.5 mm)
pins: 1 OE# (in), 2 A10 (in), 3 CE# (in), 4 DQ7 (io), 5 DQ6 (io), 6 DQ5 (io), 7 DQ4 (io), 8 DQ3 (io), 9 VSS (power), 10 DQ2 (io), 11 DQ1 (io), 12 DQ0 (io), 13 A0 (in), 14 A1 (in), 15 A2 (in), 16 A3 (in), 17 A4 (in), 18 A5 (in), 19 A6 (in), 20 A7 (in), 21 A12 (in), 22 A15 (in), 23 A16 (in), 24 A18 (in), 25 VCC (power), 26 WE# (in), 27 A17 (in), 28 A14 (in), 29 A13 (in), 30 A8 (in), 31 A9 (in), 32 A11 (in)

## AM29LV040B-120JC
designator U?
4 Mb (512 K x 8) CMOS 3.0 Volt Uniform Sector Flash Memory, 32-Pin Rectangular PLCC, Commercial Grade; Published: 6-Oct-2005; DatasheetVersion: Jul-2005; PackageVersion: revAH, 10/99; PackageReference: PL032; Publisher: Altium Limited; PackageDescription: Leaded Chip Carrier, Plastic; 32 Leads; Body 11.4 x 14 mm; Code_JEDEC: MS-016-AE; Code_IPC: PLCC/R-32; ComponentLink1Description: Manufacturer Link; ComponentLink1URL: http://www.spansion.com/; ComponentLink2Description: Datasheet; ComponentLink2URL: http://www.spansion.com/datasheets/21354e2.pdf
footprint PL032 (Leaded Chip Carrier, Plastic; 32 Leads; Body 11.4 x 14 mm)
pins: 1 A18 (in), 2 A16 (in), 3 A15 (in), 4 A12 (in), 5 A7 (in), 6 A6 (in), 7 A5 (in), 8 A4 (in), 9 A3 (in), 10 A2 (in), 11 A1 (in), 12 A0 (in), 13 DQ0 (io), 14 DQ1 (io), 15 DQ2 (io), 16 VSS (power), 17 DQ3 (io), 18 DQ4 (io), 19 DQ5 (io), 20 DQ6 (io), 21 DQ7 (io), 22 CE# (in), 23 A10 (in), 24 OE# (in), 25 A11 (in), 26 A9 (in), 27 A8 (in), 28 A13 (in), 29 A14 (in), 30 A17 (in), 31 WE# (in), 32 VCC (power)

## AM29LV040B-120JD
designator U?
4 Mb (512 K x 8) CMOS 3.0 Volt Uniform Sector Flash Memory, 32-Pin Rectangular PLCC, Commercial Grade, Pb-free; Published: 6-Oct-2005; DatasheetVersion: Jul-2005; PackageVersion: revAH, 10/99; PackageReference: PL032; Publisher: Altium Limited; PackageDescription: Leaded Chip Carrier, Plastic; 32 Leads; Body 11.4 x 14 mm; Code_JEDEC: MS-016-AE; Code_IPC: PLCC/R-32; ComponentLink1Description: Manufacturer Link; ComponentLink1URL: http://www.spansion.com/; ComponentLink2Description: Datasheet; ComponentLink2URL: http://www.spansion.com/datasheets/21354e2.pdf
footprint PL032 (Leaded Chip Carrier, Plastic; 32 Leads; Body 11.4 x 14 mm)
pins: 1 A18 (in), 2 A16 (in), 3 A15 (in), 4 A12 (in), 5 A7 (in), 6 A6 (in), 7 A5 (in), 8 A4 (in), 9 A3 (in), 10 A2 (in), 11 A1 (in), 12 A0 (in), 13 DQ0 (io), 14 DQ1 (io), 15 DQ2 (io), 16 VSS (power), 17 DQ3 (io), 18 DQ4 (io), 19 DQ5 (io), 20 DQ6 (io), 21 DQ7 (io), 22 CE# (in), 23 A10 (in), 24 OE# (in), 25 A11 (in), 26 A9 (in), 27 A8 (in), 28 A13 (in), 29 A14 (in), 30 A17 (in), 31 WE# (in), 32 VCC (power)

## AM29LV040B-120JE
designator U?
4 Mb (512 K x 8) CMOS 3.0 Volt Uniform Sector Flash Memory, 32-Pin Rectangular PLCC, Extended Grade; Published: 6-Oct-2005; DatasheetVersion: Jul-2005; PackageVersion: revAH, 10/99; PackageReference: PL032; Publisher: Altium Limited; PackageDescription: Leaded Chip Carrier, Plastic; 32 Leads; Body 11.4 x 14 mm; Code_JEDEC: MS-016-AE; Code_IPC: PLCC/R-32; ComponentLink1Description: Manufacturer Link; ComponentLink1URL: http://www.spansion.com/; ComponentLink2Description: Datasheet; ComponentLink2URL: http://www.spansion.com/datasheets/21354e2.pdf
footprint PL032 (Leaded Chip Carrier, Plastic; 32 Leads; Body 11.4 x 14 mm)
pins: 1 A18 (in), 2 A16 (in), 3 A15 (in), 4 A12 (in), 5 A7 (in), 6 A6 (in), 7 A5 (in), 8 A4 (in), 9 A3 (in), 10 A2 (in), 11 A1 (in), 12 A0 (in), 13 DQ0 (io), 14 DQ1 (io), 15 DQ2 (io), 16 VSS (power), 17 DQ3 (io), 18 DQ4 (io), 19 DQ5 (io), 20 DQ6 (io), 21 DQ7 (io), 22 CE# (in), 23 A10 (in), 24 OE# (in), 25 A11 (in), 26 A9 (in), 27 A8 (in), 28 A13 (in), 29 A14 (in), 30 A17 (in), 31 WE# (in), 32 VCC (power)

## AM29LV040B-120JF
designator U?
4 Mb (512 K x 8) CMOS 3.0 Volt Uniform Sector Flash Memory, 32-Pin Rectangular PLCC, Industrial Grade, Pb-free; Published: 6-Oct-2005; DatasheetVersion: Jul-2005; PackageVersion: revAH, 10/99; PackageReference: PL032; Publisher: Altium Limited; PackageDescription: Leaded Chip Carrier, Plastic; 32 Leads; Body 11.4 x 14 mm; Code_JEDEC: MS-016-AE; Code_IPC: PLCC/R-32; ComponentLink1Description: Manufacturer Link; ComponentLink1URL: http://www.spansion.com/; ComponentLink2Description: Datasheet; ComponentLink2URL: http://www.spansion.com/datasheets/21354e2.pdf
footprint PL032 (Leaded Chip Carrier, Plastic; 32 Leads; Body 11.4 x 14 mm)
pins: 1 A18 (in), 2 A16 (in), 3 A15 (in), 4 A12 (in), 5 A7 (in), 6 A6 (in), 7 A5 (in), 8 A4 (in), 9 A3 (in), 10 A2 (in), 11 A1 (in), 12 A0 (in), 13 DQ0 (io), 14 DQ1 (io), 15 DQ2 (io), 16 VSS (power), 17 DQ3 (io), 18 DQ4 (io), 19 DQ5 (io), 20 DQ6 (io), 21 DQ7 (io), 22 CE# (in), 23 A10 (in), 24 OE# (in), 25 A11 (in), 26 A9 (in), 27 A8 (in), 28 A13 (in), 29 A14 (in), 30 A17 (in), 31 WE# (in), 32 VCC (power)

## AM29LV040B-120JI
designator U?
4 Mb (512 K x 8) CMOS 3.0 Volt Uniform Sector Flash Memory, 32-Pin Rectangular PLCC, Industrial Grade; Published: 6-Oct-2005; DatasheetVersion: Jul-2005; PackageVersion: revAH, 10/99; PackageReference: PL032; Publisher: Altium Limited; PackageDescription: Leaded Chip Carrier, Plastic; 32 Leads; Body 11.4 x 14 mm; Code_JEDEC: MS-016-AE; Code_IPC: PLCC/R-32; ComponentLink1Description: Manufacturer Link; ComponentLink1URL: http://www.spansion.com/; ComponentLink2Description: Datasheet; ComponentLink2URL: http://www.spansion.com/datasheets/21354e2.pdf
footprint PL032 (Leaded Chip Carrier, Plastic; 32 Leads; Body 11.4 x 14 mm)
pins: 1 A18 (in), 2 A16 (in), 3 A15 (in), 4 A12 (in), 5 A7 (in), 6 A6 (in), 7 A5 (in), 8 A4 (in), 9 A3 (in), 10 A2 (in), 11 A1 (in), 12 A0 (in), 13 DQ0 (io), 14 DQ1 (io), 15 DQ2 (io), 16 VSS (power), 17 DQ3 (io), 18 DQ4 (io), 19 DQ5 (io), 20 DQ6 (io), 21 DQ7 (io), 22 CE# (in), 23 A10 (in), 24 OE# (in), 25 A11 (in), 26 A9 (in), 27 A8 (in), 28 A13 (in), 29 A14 (in), 30 A17 (in), 31 WE# (in), 32 VCC (power)

## AM29LV040B-120JK
designator U?
4 Mb (512 K x 8) CMOS 3.0 Volt Uniform Sector Flash Memory, 32-Pin Rectangular PLCC, Extended Grade, Pb-free; Published: 6-Oct-2005; DatasheetVersion: Jul-2005; PackageVersion: revAH, 10/99; PackageReference: PL032; Publisher: Altium Limited; PackageDescription: Leaded Chip Carrier, Plastic; 32 Leads; Body 11.4 x 14 mm; Code_JEDEC: MS-016-AE; Code_IPC: PLCC/R-32; ComponentLink1Description: Manufacturer Link; ComponentLink1URL: http://www.spansion.com/; ComponentLink2Description: Datasheet; ComponentLink2URL: http://www.spansion.com/datasheets/21354e2.pdf
footprint PL032 (Leaded Chip Carrier, Plastic; 32 Leads; Body 11.4 x 14 mm)
pins: 1 A18 (in), 2 A16 (in), 3 A15 (in), 4 A12 (in), 5 A7 (in), 6 A6 (in), 7 A5 (in), 8 A4 (in), 9 A3 (in), 10 A2 (in), 11 A1 (in), 12 A0 (in), 13 DQ0 (io), 14 DQ1 (io), 15 DQ2 (io), 16 VSS (power), 17 DQ3 (io), 18 DQ4 (io), 19 DQ5 (io), 20 DQ6 (io), 21 DQ7 (io), 22 CE# (in), 23 A10 (in), 24 OE# (in), 25 A11 (in), 26 A9 (in), 27 A8 (in), 28 A13 (in), 29 A14 (in), 30 A17 (in), 31 WE# (in), 32 VCC (power)

## AM29LV065DU90REF
designator U?
64 Mb (8 M x 8) CMOS 3.0 Volt Uniform Sector Flash Memory with VersatileI/O control, 48-Pin TSOP Standard Pinout, Industrial Grade, Pb-free; Published: 6-Oct-2005; DatasheetVersion: Jun-2004; PackageVersion: revAA, 10/99; PackageReference: TS048; Publisher: Altium Limited; PackageDescription: Shrink Small Outline; 48 Leads; Body Width 18.4 mm; Pitch 0.5 mm; Code_JEDEC: MO-142-DD; ComponentLink1Description: Manufacturer Link; ComponentLink1URL: http://www.spansion.com/; ComponentLink2Description: Datasheet; ComponentLink2URL: http://www.spansion.com/datasheets/23544c1.pdf
footprint TS048 (Shrink Small Outline; 48 Leads; Body Width 18.4 mm; Pitch 0.5 mm)
pins: 1 NC, 2 A22 (in), 3 A16 (in), 4 A15 (in), 5 A14 (in), 6 A13 (in), 7 A12 (in), 8 A11 (in), 9 A9 (in), 10 A8 (in), 11 WE# (in), 12 RESET# (in), 13 ACC (in), 14 RY/BY# (out), 15 A18 (in), 16 A7 (in), 17 A6 (in), 18 A5 (in), 19 A4 (in), 20 A3 (in), 21 A2 (in), 22 A1 (in), 23 NC, 24 NC, 25 NC, 26 NC, 27 A0 (in), 28 CE# (in), 29 VSS (power), 30 OE# (in), 31 DQ0 (io), 32 DQ1 (io), 33 DQ2 (io), 34 DQ3 (io), 35 A21 (in), 36 VIO (power), 37 VCC (power), 38 DQ4 (io), 39 DQ5 (io), 40 DQ6 (io), 41 DQ7 (io), 42 A10 (in), 43 A19 (in), 44 A20 (in), 45 VSS (power), 46 A17 (in), 47 NC, 48 NC

## AM29LV065DU90REI
designator U?
64 Mb (8 M x 8) CMOS 3.0 Volt Uniform Sector Flash Memory with VersatileI/O control, 48-Pin TSOP Standard Pinout, Industrial Grade; Published: 6-Oct-2005; DatasheetVersion: Jun-2004; PackageVersion: revAA, 10/99; PackageReference: TS048; Publisher: Altium Limited; PackageDescription: Shrink Small Outline; 48 Leads; Body Width 18.4 mm; Pitch 0.5 mm; Code_JEDEC: MO-142-DD; ComponentLink1Description: Manufacturer Link; ComponentLink1URL: http://www.spansion.com/; ComponentLink2Description: Datasheet; ComponentLink2URL: http://www.spansion.com/datasheets/23544c1.pdf
footprint TS048 (Shrink Small Outline; 48 Leads; Body Width 18.4 mm; Pitch 0.5 mm)
pins: 1 NC, 2 A22 (in), 3 A16 (in), 4 A15 (in), 5 A14 (in), 6 A13 (in), 7 A12 (in), 8 A11 (in), 9 A9 (in), 10 A8 (in), 11 WE# (in), 12 RESET# (in), 13 ACC (in), 14 RY/BY# (out), 15 A18 (in), 16 A7 (in), 17 A6 (in), 18 A5 (in), 19 A4 (in), 20 A3 (in), 21 A2 (in), 22 A1 (in), 23 NC, 24 NC, 25 NC, 26 NC, 27 A0 (in), 28 CE# (in), 29 VSS (power), 30 OE# (in), 31 DQ0 (io), 32 DQ1 (io), 33 DQ2 (io), 34 DQ3 (io), 35 A21 (in), 36 VIO (power), 37 VCC (power), 38 DQ4 (io), 39 DQ5 (io), 40 DQ6 (io), 41 DQ7 (io), 42 A10 (in), 43 A19 (in), 44 A20 (in), 45 VSS (power), 46 A17 (in), 47 NC, 48 NC

## AM29LV065DU90RFI
designator U?
64 Mb (8 M x 8) CMOS 3.0 Volt Uniform Sector Flash Memory with VersatileI/O control, 48-Pin TSOP Reverse Pinout, Industrial Grade; Published: 6-Oct-2005; DatasheetVersion: Jun-2004; PackageVersion: revAA, 10/99; PackageReference: TSR048; Publisher: Altium Limited; PackageDescription: Thin Small Outline, Reverse Pinout; 48 Leads; Body Width 18.4 mm; Pitch 0.5 mm; Code_JEDEC: MO-142-DD; ComponentLink1Description: Manufacturer Link; ComponentLink1URL: http://www.spansion.com/; ComponentLink2Description: Datasheet; ComponentLink2URL: http://www.spansion.com/datasheets/23544c1.pdf
footprint TSR048 (Thin Small Outline, Reverse Pinout; 48 Leads; Body Width 18.4 mm; Pitch 0.5 mm)
pins: 1 NC, 2 NC, 3 A17 (in), 4 VSS (power), 5 A20 (in), 6 A19 (in), 7 A10 (in), 8 DQ7 (io), 9 DQ6 (io), 10 DQ5 (io), 11 DQ4 (io), 12 VCC (power), 13 VIO (power), 14 A21 (in), 15 DQ3 (io), 16 DQ2 (io), 17 DQ1 (io), 18 DQ0 (io), 19 OE# (in), 20 VSS (power), 21 CE# (in), 22 A0 (in), 23 NC, 24 NC, 25 NC, 26 NC, 27 A1 (in), 28 A2 (in), 29 A3 (in), 30 A4 (in), 31 A5 (in), 32 A6 (in), 33 A7 (in), 34 A18 (in), 35 RY/BY# (out), 36 ACC (in), 37 RESET# (in), 38 WE# (in), 39 A8 (in), 40 A9 (in), 41 A11 (in), 42 A12 (in), 43 A13 (in), 44 A14 (in), 45 A15 (in), 46 A16 (in), 47 A22 (in), 48 NC

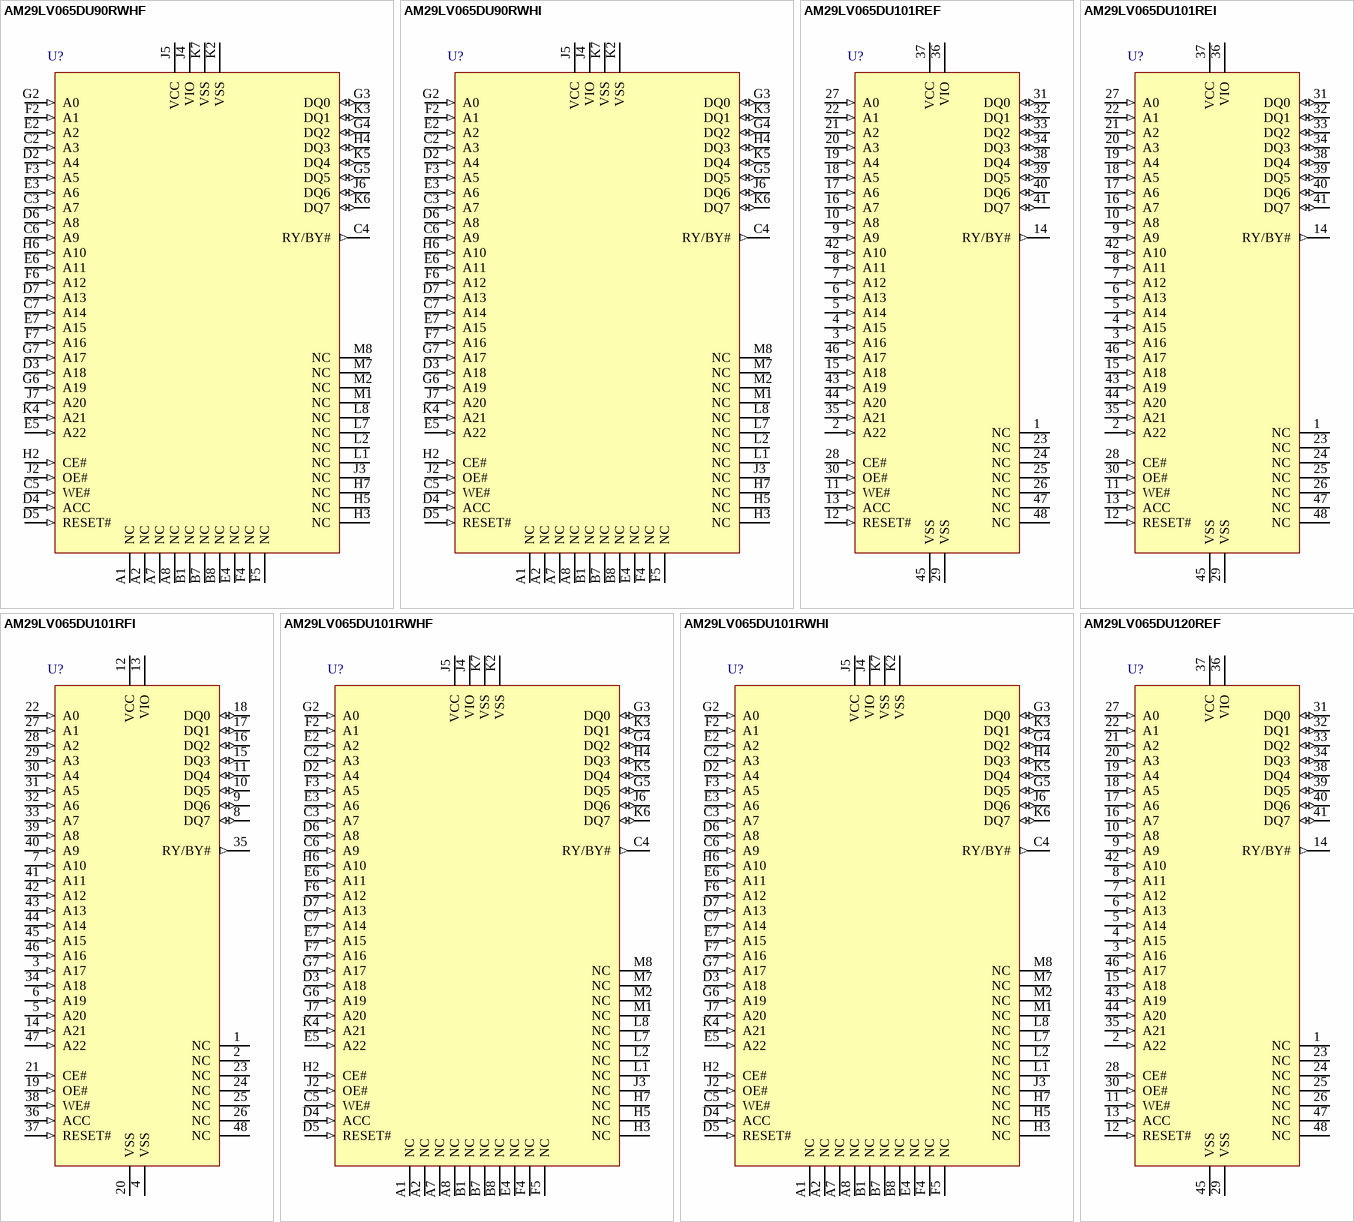
[diagram p24: symbols AM29LV065DU90RWHF to AM29LV065DU120REF]

## AM29LV065DU90RWHF
designator U?
64 Mb (8 M x 8) CMOS 3.0 Volt Uniform Sector Flash Memory with VersatileI/O control, 63-Ball FBGA, Industrial Grade, Pb-free; Published: 6-Oct-2005; LatestRevisionDate: 13-Apr-2006; LatestRevisionNote: IPC-7351 Footprint Added.; DatasheetVersion: Jun-2004; PackageVersion: revAF, 10/99; PackageReference: FBE063; Publisher: Altium Limited; PackageDescription: 63-Ball Fine Pitch Ball Grid Array Rectangular 0.8 mm Pitch; ComponentLink1Description: Manufacturer Link; ComponentLink1URL: http://www.spansion.com/; ComponentLink2Description: Datasheet; ComponentLink2URL: http://www.spansion.com/datasheets/23544c1.pdf
footprint FBE063 (BGA, 63-Leads, Body 12x11mm, Pitch 0.8mm)
pins: A1 NC, A2 NC, A7 NC, A8 NC, B1 NC, B7 NC, B8 NC, C2 A3 (in), C3 A7 (in), C4 RY/BY# (out), C5 WE# (in), C6 A9 (in), C7 A14 (in), D2 A4 (in), D3 A18 (in), D4 ACC (in), D5 RESET# (in), D6 A8 (in), D7 A13 (in), E2 A2 (in), E3 A6 (in), E4 NC, E5 A22 (in), E6 A11 (in), E7 A15 (in), F2 A1 (in), F3 A5 (in), F4 NC, F5 NC, F6 A12 (in), F7 A16 (in), G2 A0 (in), G3 DQ0 (io), G4 DQ2 (io), G5 DQ5 (io), G6 A19 (in), G7 A17 (in), H2 CE# (in), H3 NC, H4 DQ3 (io), H5 NC, H6 A10 (in), H7 NC, J2 OE# (in), J3 NC, J4 VIO (power), J5 VCC (power), J6 DQ6 (io), J7 A20 (in), K2 VSS (power), K3 DQ1 (io), K4 A21 (in), K5 DQ4 (io), K6 DQ7 (io), K7 VSS (power), L1 NC, L2 NC, L7 NC, L8 NC, M1 NC, M2 NC, M7 NC, M8 NC

## AM29LV065DU90RWHI
designator U?
64 Mb (8 M x 8) CMOS 3.0 Volt Uniform Sector Flash Memory with VersatileI/O control, 63-Ball FBGA, Industrial Grade; Published: 6-Oct-2005; LatestRevisionDate: 13-Apr-2006; LatestRevisionNote: IPC-7351 Footprint Added.; DatasheetVersion: Jun-2004; PackageVersion: revAF, 10/99; PackageReference: FBE063; Publisher: Altium Limited; PackageDescription: 63-Ball Fine Pitch Ball Grid Array Rectangular 0.8 mm Pitch; ComponentLink1Description: Manufacturer Link; ComponentLink1URL: http://www.spansion.com/; ComponentLink2Description: Datasheet; ComponentLink2URL: http://www.spansion.com/datasheets/23544c1.pdf
footprint FBE063 (BGA, 63-Leads, Body 12x11mm, Pitch 0.8mm)
pins: A1 NC, A2 NC, A7 NC, A8 NC, B1 NC, B7 NC, B8 NC, C2 A3 (in), C3 A7 (in), C4 RY/BY# (out), C5 WE# (in), C6 A9 (in), C7 A14 (in), D2 A4 (in), D3 A18 (in), D4 ACC (in), D5 RESET# (in), D6 A8 (in), D7 A13 (in), E2 A2 (in), E3 A6 (in), E4 NC, E5 A22 (in), E6 A11 (in), E7 A15 (in), F2 A1 (in), F3 A5 (in), F4 NC, F5 NC, F6 A12 (in), F7 A16 (in), G2 A0 (in), G3 DQ0 (io), G4 DQ2 (io), G5 DQ5 (io), G6 A19 (in), G7 A17 (in), H2 CE# (in), H3 NC, H4 DQ3 (io), H5 NC, H6 A10 (in), H7 NC, J2 OE# (in), J3 NC, J4 VIO (power), J5 VCC (power), J6 DQ6 (io), J7 A20 (in), K2 VSS (power), K3 DQ1 (io), K4 A21 (in), K5 DQ4 (io), K6 DQ7 (io), K7 VSS (power), L1 NC, L2 NC, L7 NC, L8 NC, M1 NC, M2 NC, M7 NC, M8 NC

## AM29LV065DU101REF
designator U?
64 Mb (8 M x 8) CMOS 3.0 Volt Uniform Sector Flash Memory with VersatileI/O control, 48-Pin TSOP Standard Pinout, Industrial Grade, Pb-free; Published: 6-Oct-2005; DatasheetVersion: Jun-2004; PackageVersion: revAA, 10/99; PackageReference: TS048; Publisher: Altium Limited; PackageDescription: Shrink Small Outline; 48 Leads; Body Width 18.4 mm; Pitch 0.5 mm; Code_JEDEC: MO-142-DD; ComponentLink1Description: Manufacturer Link; ComponentLink1URL: http://www.spansion.com/; ComponentLink2Description: Datasheet; ComponentLink2URL: http://www.spansion.com/datasheets/23544c1.pdf
footprint TS048 (Shrink Small Outline; 48 Leads; Body Width 18.4 mm; Pitch 0.5 mm)
pins: 1 NC, 2 A22 (in), 3 A16 (in), 4 A15 (in), 5 A14 (in), 6 A13 (in), 7 A12 (in), 8 A11 (in), 9 A9 (in), 10 A8 (in), 11 WE# (in), 12 RESET# (in), 13 ACC (in), 14 RY/BY# (out), 15 A18 (in), 16 A7 (in), 17 A6 (in), 18 A5 (in), 19 A4 (in), 20 A3 (in), 21 A2 (in), 22 A1 (in), 23 NC, 24 NC, 25 NC, 26 NC, 27 A0 (in), 28 CE# (in), 29 VSS (power), 30 OE# (in), 31 DQ0 (io), 32 DQ1 (io), 33 DQ2 (io), 34 DQ3 (io), 35 A21 (in), 36 VIO (power), 37 VCC (power), 38 DQ4 (io), 39 DQ5 (io), 40 DQ6 (io), 41 DQ7 (io), 42 A10 (in), 43 A19 (in), 44 A20 (in), 45 VSS (power), 46 A17 (in), 47 NC, 48 NC

## AM29LV065DU101REI
designator U?
64 Mb (8 M x 8) CMOS 3.0 Volt Uniform Sector Flash Memory with VersatileI/O control, 48-Pin TSOP Standard Pinout, Industrial Grade; Published: 6-Oct-2005; DatasheetVersion: Jun-2004; PackageVersion: revAA, 10/99; PackageReference: TS048; Publisher: Altium Limited; PackageDescription: Shrink Small Outline; 48 Leads; Body Width 18.4 mm; Pitch 0.5 mm; Code_JEDEC: MO-142-DD; ComponentLink1Description: Manufacturer Link; ComponentLink1URL: http://www.spansion.com/; ComponentLink2Description: Datasheet; ComponentLink2URL: http://www.spansion.com/datasheets/23544c1.pdf
footprint TS048 (Shrink Small Outline; 48 Leads; Body Width 18.4 mm; Pitch 0.5 mm)
pins: 1 NC, 2 A22 (in), 3 A16 (in), 4 A15 (in), 5 A14 (in), 6 A13 (in), 7 A12 (in), 8 A11 (in), 9 A9 (in), 10 A8 (in), 11 WE# (in), 12 RESET# (in), 13 ACC (in), 14 RY/BY# (out), 15 A18 (in), 16 A7 (in), 17 A6 (in), 18 A5 (in), 19 A4 (in), 20 A3 (in), 21 A2 (in), 22 A1 (in), 23 NC, 24 NC, 25 NC, 26 NC, 27 A0 (in), 28 CE# (in), 29 VSS (power), 30 OE# (in), 31 DQ0 (io), 32 DQ1 (io), 33 DQ2 (io), 34 DQ3 (io), 35 A21 (in), 36 VIO (power), 37 VCC (power), 38 DQ4 (io), 39 DQ5 (io), 40 DQ6 (io), 41 DQ7 (io), 42 A10 (in), 43 A19 (in), 44 A20 (in), 45 VSS (power), 46 A17 (in), 47 NC, 48 NC

## AM29LV065DU101RFI
designator U?
64 Mb (8 M x 8) CMOS 3.0 Volt Uniform Sector Flash Memory with VersatileI/O control, 48-Pin TSOP Reverse Pinout, Industrial Grade; Published: 6-Oct-2005; DatasheetVersion: Jun-2004; PackageVersion: revAA, 10/99; PackageReference: TSR048; Publisher: Altium Limited; PackageDescription: Thin Small Outline, Reverse Pinout; 48 Leads; Body Width 18.4 mm; Pitch 0.5 mm; Code_JEDEC: MO-142-DD; ComponentLink1Description: Manufacturer Link; ComponentLink1URL: http://www.spansion.com/; ComponentLink2Description: Datasheet; ComponentLink2URL: http://www.spansion.com/datasheets/23544c1.pdf
footprint TSR048 (Thin Small Outline, Reverse Pinout; 48 Leads; Body Width 18.4 mm; Pitch 0.5 mm)
pins: 1 NC, 2 NC, 3 A17 (in), 4 VSS (power), 5 A20 (in), 6 A19 (in), 7 A10 (in), 8 DQ7 (io), 9 DQ6 (io), 10 DQ5 (io), 11 DQ4 (io), 12 VCC (power), 13 VIO (power), 14 A21 (in), 15 DQ3 (io), 16 DQ2 (io), 17 DQ1 (io), 18 DQ0 (io), 19 OE# (in), 20 VSS (power), 21 CE# (in), 22 A0 (in), 23 NC, 24 NC, 25 NC, 26 NC, 27 A1 (in), 28 A2 (in), 29 A3 (in), 30 A4 (in), 31 A5 (in), 32 A6 (in), 33 A7 (in), 34 A18 (in), 35 RY/BY# (out), 36 ACC (in), 37 RESET# (in), 38 WE# (in), 39 A8 (in), 40 A9 (in), 41 A11 (in), 42 A12 (in), 43 A13 (in), 44 A14 (in), 45 A15 (in), 46 A16 (in), 47 A22 (in), 48 NC

## AM29LV065DU101RWHF
designator U?
64 Mb (8 M x 8) CMOS 3.0 Volt Uniform Sector Flash Memory with VersatileI/O control, 63-Ball FBGA, Industrial Grade, Pb-free; Published: 6-Oct-2005; LatestRevisionDate: 13-Apr-2006; LatestRevisionNote: IPC-7351 Footprint Added.; DatasheetVersion: Jun-2004; PackageVersion: revAF, 10/99; PackageReference: FBE063; Publisher: Altium Limited; PackageDescription: 63-Ball Fine Pitch Ball Grid Array Rectangular 0.8 mm Pitch; ComponentLink1Description: Manufacturer Link; ComponentLink1URL: http://www.spansion.com/; ComponentLink2Description: Datasheet; ComponentLink2URL: http://www.spansion.com/datasheets/23544c1.pdf
footprint FBE063 (BGA, 63-Leads, Body 12x11mm, Pitch 0.8mm)
pins: A1 NC, A2 NC, A7 NC, A8 NC, B1 NC, B7 NC, B8 NC, C2 A3 (in), C3 A7 (in), C4 RY/BY# (out), C5 WE# (in), C6 A9 (in), C7 A14 (in), D2 A4 (in), D3 A18 (in), D4 ACC (in), D5 RESET# (in), D6 A8 (in), D7 A13 (in), E2 A2 (in), E3 A6 (in), E4 NC, E5 A22 (in), E6 A11 (in), E7 A15 (in), F2 A1 (in), F3 A5 (in), F4 NC, F5 NC, F6 A12 (in), F7 A16 (in), G2 A0 (in), G3 DQ0 (io), G4 DQ2 (io), G5 DQ5 (io), G6 A19 (in), G7 A17 (in), H2 CE# (in), H3 NC, H4 DQ3 (io), H5 NC, H6 A10 (in), H7 NC, J2 OE# (in), J3 NC, J4 VIO (power), J5 VCC (power), J6 DQ6 (io), J7 A20 (in), K2 VSS (power), K3 DQ1 (io), K4 A21 (in), K5 DQ4 (io), K6 DQ7 (io), K7 VSS (power), L1 NC, L2 NC, L7 NC, L8 NC, M1 NC, M2 NC, M7 NC, M8 NC